# Altium schematic symbol library BQ25170DSGR.SchLib: 1 symbol
Pins are listed as number, name and electrical type; pins without a type are passive.

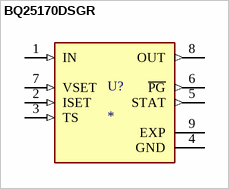
[diagram p0: symbol BQ25170DSGR]

## BQ25170DSGR
designator U?
800-mA linear battery charger for 1-cell Li-ion and LiFePO4; MF: Texas Instruments; MP: BQ25170DSGR; SnapEDA_Link: https://www.snapeda.com/parts/BQ25170DSGR/Texas+Instruments/view-part/?ref=snap; Package: WSON-8 Texas Instruments; Value: *; Check_prices: https://www.snapeda.com/parts/BQ25170DSGR/Texas+Instruments/view-part/?ref=eda
footprint SON50P200X200X80-9N
pins: 1 IN (in), 2 ISET (in), 3 TS (in), 4 GND (power), 5 STAT (out), 6 ~{PG} (out), 7 VSET (in), 8 OUT (out), 9 EXP (power)